# Altium schematic symbol library IPS6031.Schlib: 1 symbol
Pins are listed as number, name and electrical type; pins without a type are passive.

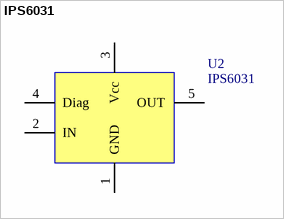
[diagram p0: symbol IPS6031]

## IPS6031
designator U2
Intelligent Power Switch; Part Field 1: IC, Power Switch; Part Field 2: 16 A, 39V max; Part Field 3: TO-252; Part Field 4: International Rectifier; Part Field 5: IPS6031RPBF; Part Field 6: 222-1863; ComponentLink2Description: Datasheet; ComponentLink3Description: Supplier Link; ComponentLink1Description: Manufacturer Link
pins: 1 GND (power), 2 IN (power), 3 Vcc (power), 4 Diag (power), 5 OUT (power)